# Altium schematic symbol library Capacitor.SchLib: 6 symbols
Pins are listed as number, name and electrical type; pins without a type are passive.

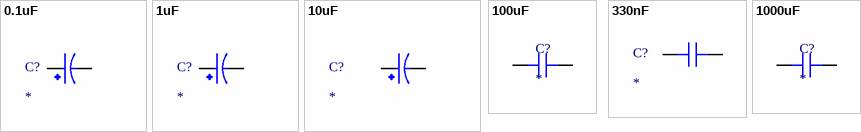
[diagram p0: symbols 0.1uF to 1000uF]

## 0.1uF
designator C?
ELECTROLYTİC LEGGED
footprint 0.1uF CAPACITOR LEGGED
pins: +, -

## 1uF
designator C?
ELECTROLYTİC LEGGED
footprint 1UF CAPACITOR LEGGED
pins: +, -

## 10uF
designator C?
TANTAL
footprint TANTAL B-CASE
pins: +, -

## 100uF
designator C?
CERAMİC 1206 SMD
footprint CERAMIC 1206
pins: 1, 2

## 330nF
designator C?
CERAMİC 1206 SMD
footprint CERAMIC 1206
pins: 1, 2

## 1000uF
designator C?
CERAMİC 1206 SMD
footprint CERAMIC 1206
pins: 1, 2